# EAGLE library part HX711 (library HX711_Library_v5)
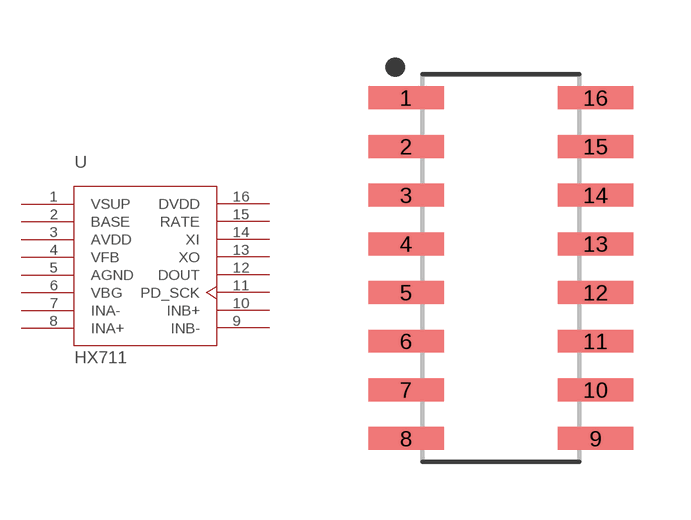
[diagram p0: symbol with the pads of SOIC127P600X160-16N; footprint SOIC127P600X160-16N]

Designator prefix U

## HX711  [SOIC127P600X160-16N]
1  VSUP  pwr
2  BASE  out
3  AVDD  pwr
4  VFB  in
5  AGND  pwr
6  VBG  out
7  INA-  in
8  INA+  in
9  INB-  in
10  INB+  in
11  PD_SCK  in
12  DOUT  out
13  XO
14  XI  in
15  RATE  in
16  DVDD  pwr

## Footprint SOIC127P600X160-16N (pad centres in mm)
16-SOIC, 1.27 mm pitch, 6.00 mm span, 9.90 X 3.90 X 1.60 mm body 16-pin SOIC package with 1.27 mm pitch, 6.00 mm span with body size 9.90 X 3.90 X 1.60 mm
smd 1.969 x 0.597: 1 -2.474,4.445; 2 -2.474,3.175; 3 -2.474,1.905; 4 -2.474,0.635; 5 -2.474,-0.635; 6 -2.474,-1.905; 7 -2.474,-3.175; 8 -2.474,-4.445; 9 2.474,-4.445; 10 2.474,-3.175; 11 2.474,-1.905; 12 2.474,-0.635; 13 2.474,0.635; 14 2.474,1.905; 15 2.474,3.175; 16 2.474,4.445